# EAGLE library part LCD2X16 (library Aff_LCD)
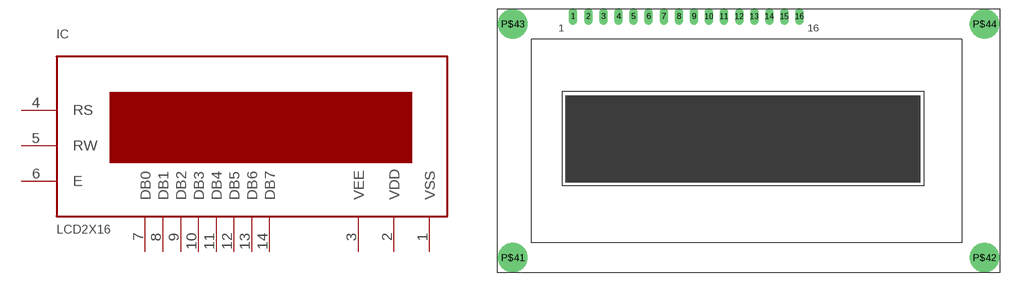
[diagram p0: symbol with the pads of LCD_PACK; footprint LCD_PACK]

Designator prefix IC

## LCD2X16  [LCD_PACK]
1  VSS  pwr
2  VDD  pwr
3  VEE  pwr
4  RS  in
5  RW  in
6  E  in
7  DB0
8  DB1
9  DB2
10  DB3
11  DB4
12  DB5
13  DB6
14  DB7

## Footprint LCD_PACK (pad centres in mm)
drill 0.61 pad 1.422 long: 1 -25.4,21.59; 2 -22.86,21.59; 3 -20.32,21.59; 4 -17.78,21.59; 5 -15.24,21.59; 6 -12.7,21.59; 7 -10.16,21.59; 8 -7.62,21.59; 9 -5.08,21.59; 10 -2.54,21.59; 11 0,21.59; 12 2.54,21.59; 13 5.08,21.59; 14 7.62,21.59; 15 10.16,21.59; 16 12.7,21.59
drill 0.813 pad 5 round: P$41 -35.56,-19.05; P$42 43.815,-19.05; P$43 -35.56,20.32; P$44 43.815,20.32